# Altium schematic symbol library 2017_MADS.SchLib: 4 symbols
Pins are listed as number, name and electrical type; pins without a type are passive.

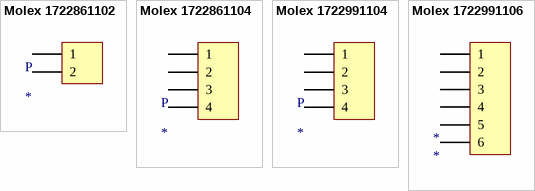
[diagram p0: symbols Molex 1722861102 to Molex 1722991106]

## Molex 1722861102
designator P
ULTRAFIT CONN HDR 02CKT; Supplier 1: Digi-Key; Supplier Part Number 1: WM11570-ND
footprint Molex 1722861102
pins: 1, 2

## Molex 1722861104
designator P
ULTRAFIT CONN HDR 04CKT; Supplier 1: Digi-Key; Supplier Part Number 1: WM11574-ND
footprint Molex 1722861104
pins: 1, 2, 3, 4

## Molex 1722991104
designator P
ULTRAFIT VERT TIN PLATED BLK; Supplier 1: Digi-Key; Supplier Part Number 1: WM11777-ND
footprint Molex 1722991104
pins: 1, 2, 3, 4

## Molex 1722991106
designator *
Supplier 1: Digi-Key; Supplier Part Number 1: WM11778-ND
footprint MOLEX 1722991106
pins: 1, 2, 3, 4, 5, 6